# EAGLE library part RF:PHASESHIFTER(MINICIR_JSPHS150) (library QuantumOptics)
Mini-Circuits JSPHS-150, Phase Shifter
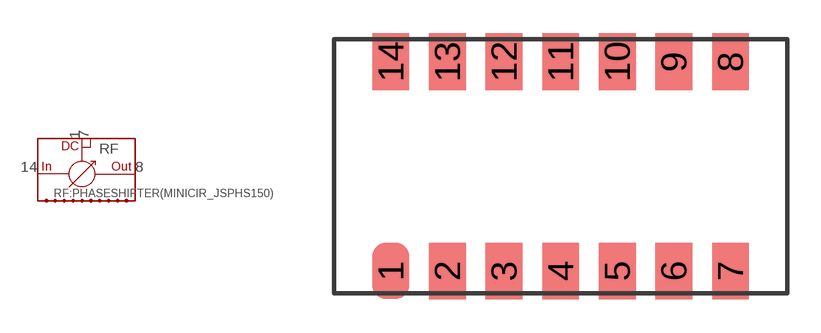
[diagram p143: symbol with the pads of RF:PHASESHIFTER(MINICIR_JSPHS150); footprint RF:PHASESHIFTER(MINICIR_JSPHS150)]

Designator prefix RF

## RF:PHASESHIFTER(MINICIR_JSPHS150)  [RF:PHASESHIFTER(MINICIR_JSPHS150)]
1  DC1
2  COM
3  COM
4  COM
5  COM
6  COM
7  DC2
8  OUT
9  COM
10  COM
11  COM
12  COM
13  COM
14  IN

## Footprint RF:PHASESHIFTER(MINICIR_JSPHS150) (pad centres in mm)
Mini-Circuits JSPHS-150, Phase Shifter
smd 1.65 x 2.54: 1 -7.62,-4.699; 2 -5.08,-4.699; 3 -2.54,-4.699; 4 0,-4.699; 5 2.54,-4.699; 6 5.08,-4.699; 7 7.62,-4.699; 8 7.62,4.699; 9 5.08,4.699; 10 2.54,4.699; 11 0,4.699; 12 -2.54,4.699; 13 -5.08,4.699; 14 -7.62,4.699